# EAGLE library part MYRRA-UI30 (library toslink)
MYRRA UI 30 transformer
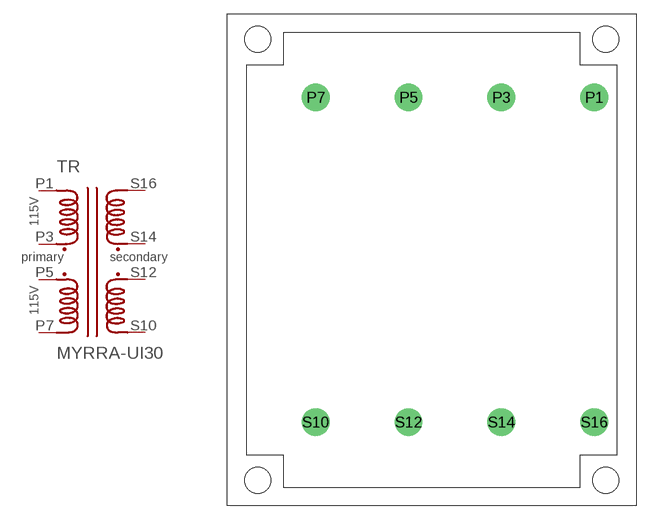
[diagram p22: symbol with the pads of MYRRA-UI30; footprint MYRRA-UI30]

Designator prefix TR

## MYRRA-UI30  [MYRRA-UI30]
P1  P1  pas
P3  P3  pas
P5  P5  pas
P7  P7  pas
S10  S10  pas
S12  S12  pas
S14  S14  pas
S16  S16  pas

## Footprint MYRRA-UI30 (pad centres in mm)
MYRRA UI 30 transformer
drill 1 pad 3: P1 17.5,17.5; P3 7.5,17.5; P5 -2.5,17.5; P7 -12.5,17.5; S10 -12.5,-17.5; S12 -2.5,-17.5; S14 7.5,-17.5; S16 17.5,-17.5
hole 2.8 at -18.75,23.75
hole 2.8 at 18.75,23.75
hole 2.8 at 18.75,-23.75
hole 2.8 at -18.75,-23.75